# Altium footprint library EN3P2FRAPC.PcbLib: 1 footprints
Each footprint in its own frame and in the unit in brackets; x right, y up, seen from the top. Pads: shape width x height; smd on the part's side, far side on the other; paste and mask are expansions set on the pad; w line width, h text height; cw(c..) or ccw(c..) is an arc to the next point about the centre after c.
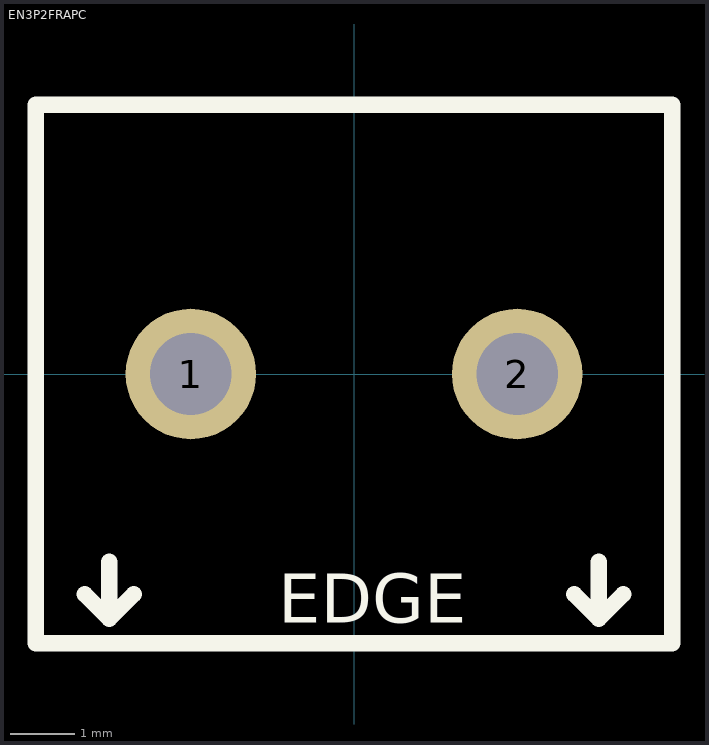
[diagram p0: the footprint, top view; thin cyan lines are the x and y axes]

## EN3P2FRAPC [mil]
pads (2):
  round 80 hole 50: 1(-100,0) 2(100,0)
Top Overlay:
  lines w10: -165,-135 -150,-150 ; -150,-115 -150,-150 ; -135,-135 -150,-150 ; 135,-135 150,-150 ; 150,-115 150,-150 ; 165,-135 150,-150 ; -195,-165 195,-165 195,165 -195,165 -195,-165
  text "EDGE" at -46.5,-152.5 h30